# EAGLE library part PCM1791A (library BW-Active)
Audio DAC 24Bit 192kHz
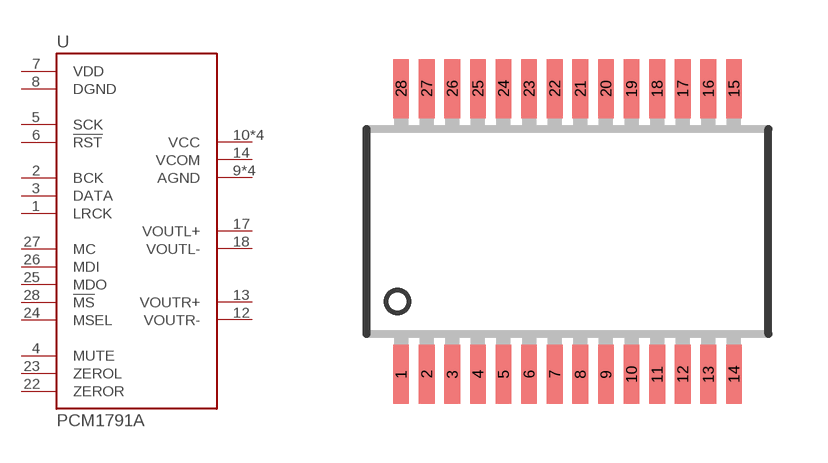
[diagram p38: symbol with the pads of SSOP28; footprint SSOP28]

Designator prefix U

## PCM1791A  [SSOP28]
1  LRCK
2  BCK
3  DATA
4  MUTE
5  SCK
6  !RST
7  VDD
8  DGND
9  AGND
10  VCC
11  AGND
12  VOUTR-
13  VOUTR+
14  VCOM
15  VCC
16  AGND
17  VOUTL+
18  VOUTL-
19  AGND
20  VCC
21  VCC
22  ZEROR
23  ZEROL
24  MSEL
25  MDO
26  MDI
27  MC
28  !MS

## Footprint SSOP28 (pad centres in mm)
Shrink Small Outline Package package type SS
smd 0.4 x 1.5: 1 -4.225,-3.625; 2 -3.575,-3.625; 3 -2.925,-3.625; 4 -2.275,-3.625; 5 -1.625,-3.625; 6 -0.975,-3.625; 7 -0.325,-3.625; 8 0.325,-3.625; 9 0.975,-3.625; 10 1.625,-3.625; 11 2.275,-3.625; 12 2.925,-3.625; 13 3.575,-3.625; 14 4.225,-3.625; 15 4.225,3.625; 16 3.575,3.625; 17 2.925,3.625; 18 2.275,3.625; 19 1.625,3.625; 20 0.975,3.625; 21 0.325,3.625; 22 -0.325,3.625; 23 -0.975,3.625; 24 -1.625,3.625; 25 -2.275,3.625; 26 -2.925,3.625; 27 -3.575,3.625; 28 -4.225,3.625